# EAGLE library part WT12 (library X893)
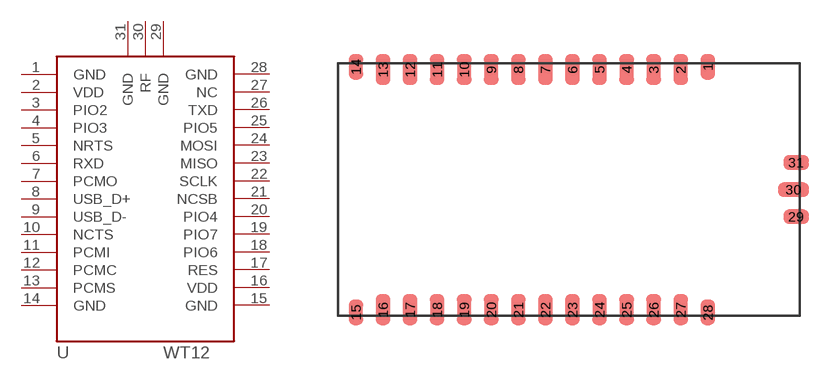
[diagram p25: symbol with the pads of WT12; footprint WT12]

Designator prefix U

## WT12  [WT12]
1  GND  sup
2  VDD  pas
3  PIO2
4  PIO3
5  NRTS  out
6  RXD  in
7  PCMO
8  USB_D+
9  USB_D-
10  NCTS  in
11  PCMI
12  PCMC
13  PCMS
14  GND  sup
15  GND  sup
16  VDD  pas
17  RES  in
18  PIO6
19  PIO7
20  PIO4
21  NCSB
22  SCLK
23  MISO
24  MOSI
25  PIO5
26  TXD  out
27  NC  nc
28  GND  sup
29  GND  sup
30  RF  pas
31  GND  sup

## Footprint WT12 (pad centres in mm)
smd 0.8 x 1.4: 1 7.7,6.8; 14 -11.8,6.8; 15 -11.8,-6.8; 28 7.7,-6.8
smd 0.8 x 1.7: 2 6.2,6.65; 3 4.7,6.65; 4 3.2,6.65; 5 1.7,6.65; 6 0.2,6.65; 7 -1.3,6.65; 8 -2.8,6.65; 9 -4.3,6.65; 10 -5.8,6.65; 11 -7.3,6.65; 12 -8.8,6.65; 13 -10.3,6.65; 16 -10.3,-6.65; 17 -8.8,-6.65; 18 -7.3,-6.65; 19 -5.8,-6.65; 20 -4.3,-6.65; 21 -2.8,-6.65; 22 -1.3,-6.65; 23 0.2,-6.65; 24 1.7,-6.65; 25 3.2,-6.65; 26 4.7,-6.65; 27 6.2,-6.65
smd 1.4 x 0.8: 29 12.6,-1.5; 31 12.6,1.5
smd 1.7 x 0.8: 30 12.45,0